# Altium footprint library SENSOR.PcbLib: 86 footprints (part 5 of 6)
Each footprint in its own frame and in the unit in brackets; x right, y up, seen from the top. Pads: shape width x height; smd on the part's side, far side on the other; paste and mask are expansions set on the pad; w line width, h text height; cw(c..) or ccw(c..) is an arc to the next point about the centre after c.
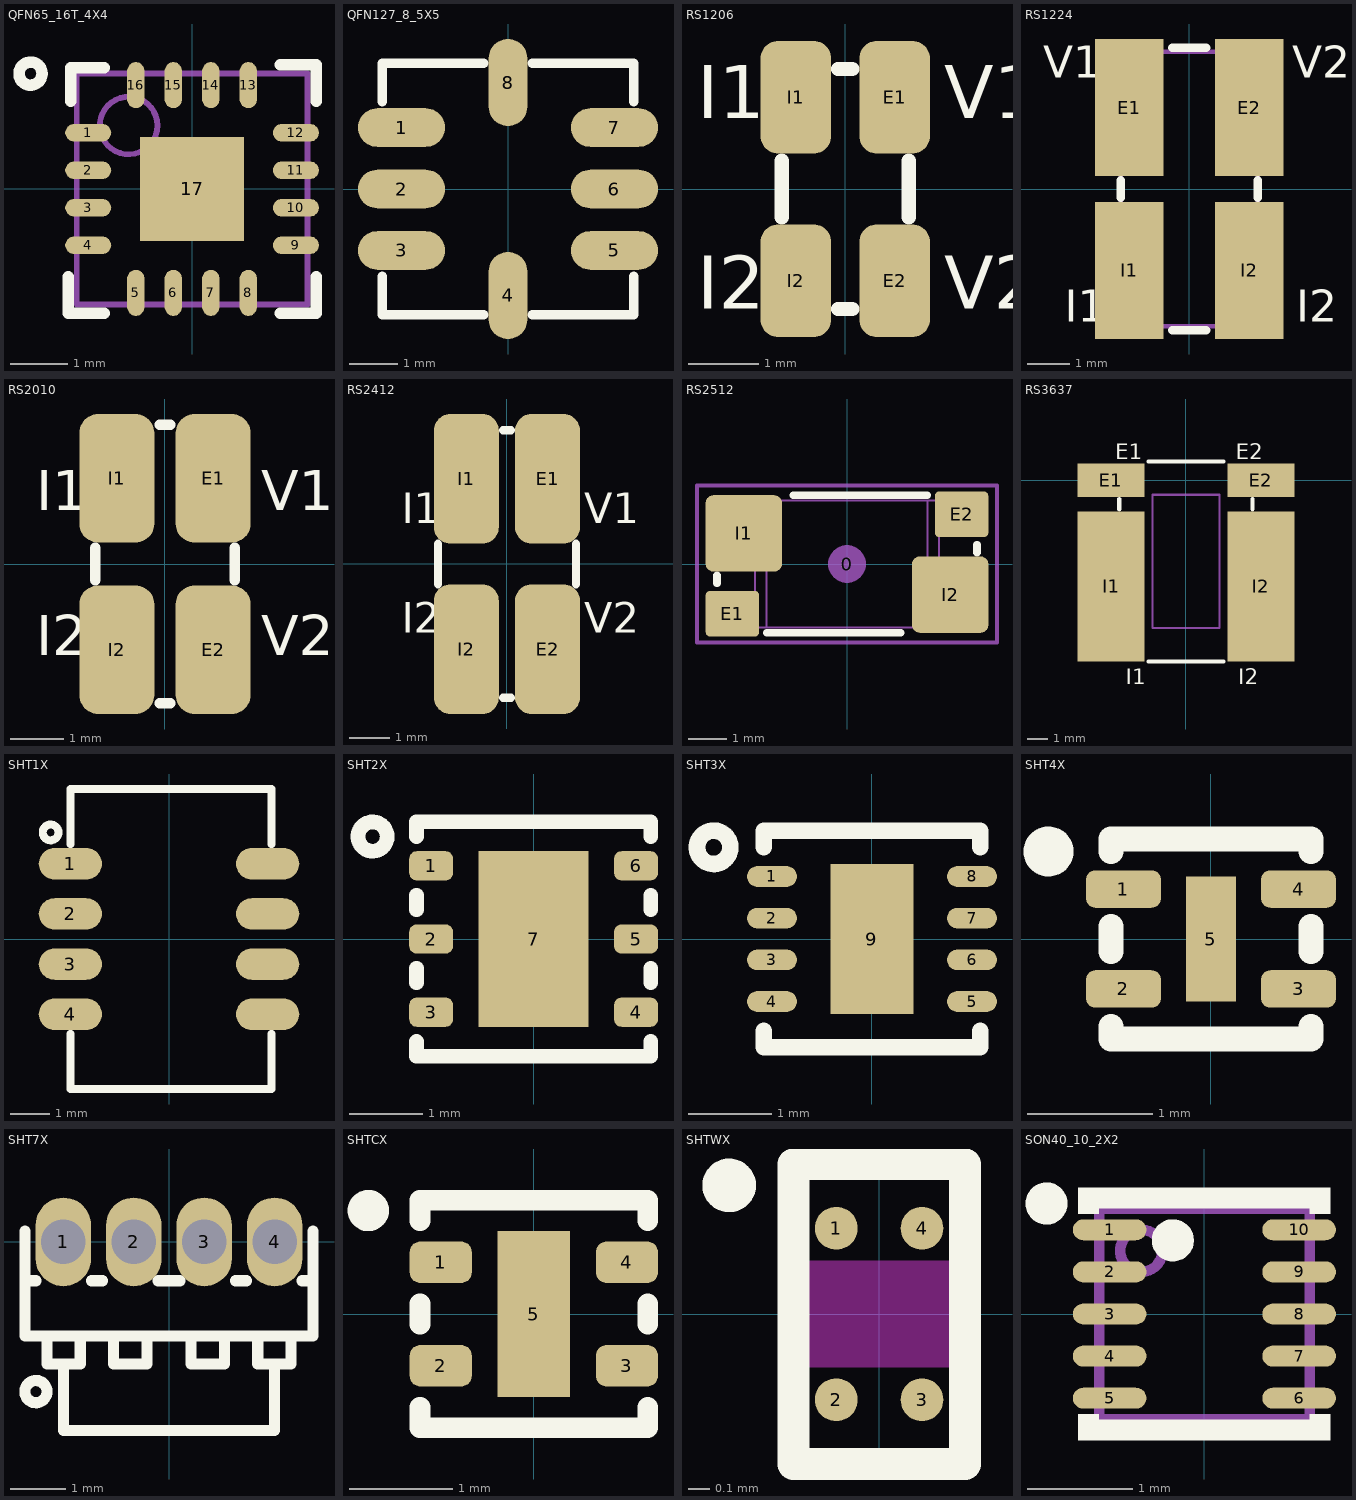
[diagram p4: the footprints below, top view; thin cyan lines are the x and y axes]

## QFN65_16T_4X4 [mm] "QFN, 16-Leads, Body 4.00x4.00mm, Pitch 0.65mm, ADX330"
height 1.5
pads (17):
  oval 0.8x0.3 smd mask+0.075: 1(-1.8,0.975) 2(-1.8,0.325) 3(-1.8,-0.325) 4(-1.8,-0.975) 9(1.8,-0.975) 10(1.8,-0.325) 11(1.8,0.325) 12(1.8,0.975)
  oval 0.3x0.8 smd mask+0.075: 5(-0.975,-1.8) 6(-0.325,-1.8) 7(0.325,-1.8) 8(0.975,-1.8) 13(0.975,1.8) 14(0.325,1.8) 15(-0.325,1.8) 16(-0.975,1.8)
  rect 1.8x1.8 smd paste-0.1: 17(0,0)
Top Overlay:
  circle w0.2: c-2.8,2 r0.2
  lines w0.2: -2.15,-1.525 -2.15,-2.15 -1.525,-2.15 ; -2.1,1.525 -2.1,2.1 -1.525,2.1 ; 1.525,-2.15 2.15,-2.15 2.15,-1.525 ; 1.525,2.15 2.15,2.15 2.15,1.525
Mechanical 13:
  circle w0.1: c-1.1,1.1 r0.5
  lines w0.1: -2,-2 -2,2 2,2 2,-2 -2,-2
3D body "QFN65_16T_4X4.step": height 1.5, standoff 0, extent -2.02,-2.02 2.02,2.02

## QFN127_8_5X5 [mm] "E-8-1, LCC 8, ADXL103, ADXL203"
pads (8):
  oval 1.8x0.8 smd paste-0.05: 1(-2.2,1.27) 2(-2.2,0) 3(-2.2,-1.27) 5(2.2,-1.27) 6(2.2,0) 7(2.2,1.27)
  oval 0.8x1.8 smd paste-0.05: 4(0,-2.2) 8(0,2.2)
Top Overlay:
  lines w0.2: -2.6,-1.8 -2.6,-2.6 -0.5,-2.6 ; -2.6,1.8 -2.6,2.6 -0.5,2.6 ; 0.5,-2.6 2.6,-2.6 2.6,-1.8 ; 0.5,2.6 2.6,2.6 2.6,1.8
3D body "User Library-LCC-8.step": height 1.55, standoff 0, extent -2.5,-2.5 2.5,2.5

## RS1206 [mm] "RESISTOR SHUNT SMD, 3.2X1.6mm, 1206, LVK12"
height 0.5
pads (4):
  rrect50% 1x1.6 smd: E1(0.7,1.3) E2(0.7,-1.3) I1(-0.7,1.3) I2(-0.7,-1.3)
Top Overlay:
  lines w0.2: -0.9,-0.4 -0.9,0.4 ; -0.1,-1.7 0.1,-1.7 ; -0.1,1.7 0.1,1.7 ; 0.9,-0.4 0.9,0.4
  text "V1" at 1.4,1 h0.75
  text "I1" at -2.1,1 h0.75
  text "V2" at 1.4,-1.7 h0.75
  text "I2" at -2.1,-1.7 h0.75
3D body "LVK12R010FER.stp": height 0.6, standoff 0.05, extent -0.8,-1.6 0.8,1.6

## RS1224 [mm] "RESISTOR SHUNT SMD, 6.4X3.2mm, 1224, LVK25R005FER"
pads (4):
  rect 1.6x3.2 smd: E1(-1.4,1.9) E2(1.4,1.9) I1(-1.4,-1.9) I2(1.4,-1.9)
Top Overlay:
  lines w0.2: -1.6,-0.2 -1.6,0.2 ; -0.4,-3.3 0.4,-3.3 ; -0.4,3.3 0.4,3.3 ; 1.6,-0.2 1.6,0.2
  text "V1" at -3.4,2.6 h0.75
  text "I1" at -2.9,-3.1 h0.75
  text "V2" at 2.4,2.6 h0.75
  text "I2" at 2.5,-3.1 h0.75
Mechanical 13:
  lines w0.1: -1.6,-3.2 1.6,-3.2 1.6,3.2 -1.6,3.2 -1.6,-3.2
3D body "User Library-LVK25-V2.step": height 0.67, standoff -0.05, extent -1.55,-3.2 1.55,3.211

## RS2010 [mm] "RESISTOR SHUNT SMD, 5X2.5mm, 2010, LVK20"
height 0.5
pads (4):
  rrect50% 1.4x2.4 smd: E1(0.9,1.6) E2(0.9,-1.6) I1(-0.9,1.6) I2(-0.9,-1.6)
Top Overlay:
  lines w0.2: -1.3,-0.3 -1.3,0.3 ; -0.1,-2.6 0.1,-2.6 ; -0.1,2.6 0.1,2.6 ; 1.3,-0.3 1.3,0.3
  text "I2" at -2.4,-1.7 h0.75
  text "V2" at 1.8,-1.7 h0.75
  text "I1" at -2.4,1 h0.75
  text "V1" at 1.8,1 h0.75
3D body "LVK20R010FER.stp": height 0.6, standoff 0.05, extent -1.245,-2.502 1.245,2.502

## RS2412 [mm] "RESISTOR SHUNT SMD, 6.4X3.2mm, 2412, LVK24"
height 0.5
pads (4):
  rrect50% 1.6x3.2 smd: E1(1,2.1) E2(1,-2.1) I1(-1,2.1) I2(-1,-2.1)
Top Overlay:
  lines w0.2: -1.7,-0.5 -1.7,0.5 ; -0.1,-3.3 0.1,-3.3 ; -0.1,3.3 0.1,3.3 ; 1.7,-0.5 1.7,0.5
  text "I2" at -2.6,-1.7 h0.75
  text "V2" at 1.9,-1.7 h0.75
  text "I1" at -2.6,1 h0.75
  text "V1" at 1.9,1 h0.75
3D body "LVK24R010FER.stp": height 0.6, standoff 0.05, extent -1.6,-3.2 1.6,3.201

## RS2512 [mm] "RESISTOR SHUNT SMD, 6.3x3.2mm, 2512"
height 0.89
pads (5):
  round 1 on Mech15: 0(0,0)
  rrect20% 1.4x1.2 smd paste-0.7: E1(-3,-1.3) E2(3,1.3)
  rrect20% 2x2 smd paste-1.1: I1(-2.7,0.8) I2(2.7,-0.8)
Top Overlay:
  lines w0.2: -3.4,-0.5 -3.4,-0.3 ; -2.1,-1.8 1.4,-1.8 ; -1.4,1.8 2.1,1.8 ; 3.4,0.3 3.4,0.5
Mechanical 13:
  circle w0.05: c0,0 r0.25
  lines w0.05: -2.106,-1.663 -2.106,1.663 ; 2.106,-1.663 2.106,1.663 ; -3.3,-1.663 -3.3,-0.813 -2.406,-0.813 -2.406,0.038 -3.3,0.038 -3.3,1.663 3.3,1.663 3.3,0.813 2.406,0.813 2.406,-0.038 3.3,-0.038 3.3,-1.663 -3.3,-1.663
Mechanical 15:
  lines w0.1: -3.925,-2.05 -3.925,2.05 3.925,2.05 3.925,-2.05 -3.925,-2.05
3D body "RESC6332X89_119T_KELVIN.STEP": height 0.88, standoff 0, extent -3.3,-1.662 3.3,1.663

## RS3637 [mm] "RESISTOR SHUNT SMD, 9.1X9.4mm, 3637"
pads (4):
  rect 3.2x1.6 smd: E1(-3.6,0) E2(3.6,0)
  rect 3.2x7.2 smd: I1(-3.6,-5.1) I2(3.6,-5.1)
Top Overlay:
  lines w0.2: -3.2,-1.4 -3.2,-0.9 ; -1.8,-8.7 1.8,-8.7 ; -1.8,0.9 1.8,0.9 ; 3.2,-1.4 3.2,-0.9
  text "E1" at -3.4,1 h0.75
  text "I1" at -2.9,-9.8 h0.75
  text "E2" at 2.4,1 h0.75
  text "I2" at 2.5,-9.8 h0.75
Mechanical 13:
  lines w0.1: -1.6,-7.1 1.6,-7.1 1.6,-0.7 -1.6,-0.7 -1.6,-7.1
3D body "User Library-WSL3637.step": height 0.64, standoff 0, extent -4.57,-8.6 4.57,0.8

## SHT1X [mm] "SENSIRION SHT1x humidity and temp sensor"
pads (8):
  oval 1.6x0.8 smd paste-0.05 mask+0.075: 1(-2.5,1.905) 2(-2.5,0.635) 3(-2.5,-0.635) 4(-2.5,-1.905) ""(2.5,-1.905) ""(2.5,-0.635) ""(2.5,0.635) ""(2.5,1.905)
Top Overlay:
  circle w0.2: c-3,2.7 r0.2
  lines w0.2: -2.5,-2.4 -2.5,-3.8 2.6,-3.8 2.6,-2.4 ; -2.5,2.4 -2.5,3.8 2.6,3.8 2.6,2.4
3D body "SHT1x.STEP": height 2.35, standoff -0.01, extent -2.43,-3.735 2.5,3.735

## SHT2X [mm] "SENSIRION SHT2X humidity and temp sensor 3X3x1.1mm"
height 1.1
pads (7):
  rrect50% 0.6x0.4 smd paste-0.05 mask+0.075: 1(-1.4,1) 2(-1.4,0) 3(-1.4,-1) 4(1.4,-1) 5(1.4,0) 6(1.4,1)
  rect 1.5x2.4 smd paste-0.05 mask+0.075: 7(0,0)
Top Overlay:
  circle w0.2: c-2.2,1.4 r0.2
  lines w0.2: -1.6,-1.4 -1.6,-1.6 1.6,-1.6 1.6,-1.4 ; -1.6,-0.6 -1.6,-0.4 ; -1.6,0.4 -1.6,0.6 ; -1.6,1.4 -1.6,1.6 1.6,1.6 1.6,1.4 ; 1.6,-0.6 1.6,-0.4 ; 1.6,0.4 1.6,0.6
3D body "SHT21.step": height 1.1, standoff -0.02, extent -1.51,-1.5 1.51,1.5

## SHT3X [mm] "SENSIRION SHT3x humidity and temp sensor 2.5x2.5x1mm"
height 1
pads (9):
  oval 0.6x0.25 smd paste-0.025 mask+0.075: 1(-1.2,0.75) 2(-1.2,0.25) 3(-1.2,-0.25) 4(-1.2,-0.75) 5(1.2,-0.75) 6(1.2,-0.25) 7(1.2,0.25) 8(1.2,0.75)
  rect 1x1.8 smd: 9(0,0)
Top Overlay:
  circle w0.2: c-1.9,1.1 r0.2
  lines w0.2: -1.3,-1.1 -1.3,-1.3 1.3,-1.3 1.3,-1.1 ; -1.3,1.1 -1.3,1.3 1.3,1.3 1.3,1.1
3D body "sht3x.step": height 0.9, standoff 0, extent -1.25,-1.3 1.25,1.2

## SHT4X [mm] "SENSIRION SHT4X humidity and temp sensor 1.5X1.5x0.54mm"
height 0.6
pads (5):
  rrect50% 0.6x0.3 smd paste-0.025 mask+0.075: 1(-0.7,0.4) 2(-0.7,-0.4) 3(0.7,-0.4) 4(0.7,0.4)
  rect 0.4x1 smd mask+0.075: 5(0,0)
Top Overlay:
  circle w0.2: c-1.3,0.7 r0.1
  lines w0.2: -0.8,-0.7 -0.8,-0.8 0.8,-0.8 0.8,-0.7 ; -0.8,-0.1 -0.8,0.1 ; -0.8,0.7 -0.8,0.8 0.8,0.8 0.8,0.7 ; 0.8,-0.1 0.8,0.1
3D body "SHT4x.step": height 0.55, standoff 0, extent -0.751,-0.75 0.751,0.75

## SHT7X [mm] "SENSIRION SHT7x humidity and temp sensor"
pads (4):
  oval 1x1.6 hole 0.8 mask+0.075: 1(-1.905,0) 2(-0.635,0)
  oval 1x1.6 hole 0.8 paste-2539.97 mask+0.075: 3(0.635,0) 4(1.905,0)
Top Overlay:
  circle w0.2: c-2.4,-2.7 r0.2
  lines w0.2: -2.6,-0.7 -2.4,-0.7 ; -2.6,0.2 -2.6,-1.7 2.6,-1.7 2.6,0.2 ; -2.2,-1.7 -2.2,-2.2 -1.6,-2.2 -1.6,-1.7 ; -1.9,-2.2 -1.9,-3.4 1.9,-3.4 1.9,-2.2 ; -1.4,-0.7 -1.2,-0.7 ; -1,-1.7 -1,-2.2 -0.4,-2.2 -0.4,-1.7 ; -0.2,-0.7 0.2,-0.7 ; 0.4,-1.7 0.4,-2.2 1,-2.2 1,-1.7 ; 1.2,-0.7 1.4,-0.7 ; 1.6,-1.7 1.6,-2.2 2.2,-2.2 2.2,-1.7 ; 2.4,-0.7 2.6,-0.7
3D body "SHT7x.STEP": height 13.7, standoff -6.1, extent -2.54,-3.3 2.54,0.1

## SHTCX [mm] "SENSIRION SHTCx humidity and temp sensor 2X2x0.75mm"
height 0.75
pads (5):
  rrect50% 0.6x0.4 smd paste-0.025 mask+0.075: 1(-0.9,0.5) 2(-0.9,-0.5) 3(0.9,-0.5) 4(0.9,0.5)
  rect 0.7x1.6 smd mask+0.075: 5(0,0)
Top Overlay:
  circle w0.2: c-1.6,1 r0.1
  lines w0.2: -1.1,-0.9 -1.1,-1.1 1.1,-1.1 1.1,-0.9 ; -1.1,-0.1 -1.1,0.1 ; -1.1,0.9 -1.1,1.1 1.1,1.1 1.1,0.9 ; 1.1,-0.1 1.1,0.1
3D body "shtc1.step": height 0.76, standoff -0.01, extent -1.01,-1 1.01,1

## SHTWX [mm] "SENSIRION SHTW2 humidity and temp sensor 0.7X1.3x0.5mm"
height 0.5
pads (8):
  round 0.2 smd paste-0.15 mask+0.05: 1(-0.2,0.4) 2(-0.2,-0.4) 3(0.2,-0.4) 4(0.2,0.4)
  rrect30% 0.25x0.25 on Top Paste: ""(-0.2,-0.4) ""(-0.2,0.4) ""(0.2,-0.4) ""(0.2,0.4)
Top Layer keep-out:
  rectangle: -0.45,-0.25 0.45,0.25
Top Overlay:
  circle w0.15: c-0.7,0.6 r0.05
  lines w0.15: -0.4,-0.7 0.4,-0.7 0.4,0.7 -0.4,0.7 -0.4,-0.7
3D body "115093-01_Publikationsmodell SHTW2.step": height 0.54, standoff -0.01, extent -0.37,-0.655 0.37,0.655

## SON40_10_2X2 [mm] "DFN-10 pitch:2mm 2X2X0.85mm"
height 0.9
pads (10):
  oval 0.7x0.2 smd mask+0.05: 1(-0.9,0.8) 2(-0.9,0.4) 3(-0.9,0) 4(-0.9,-0.4) 5(-0.9,-0.8) 6(0.9,-0.8) 7(0.9,-0.4) 8(0.9,0) 9(0.9,0.4) 10(0.9,0.8)
Top Overlay:
  circle w0.2: c-1.5,1.05 r0.1
  circle w0.2: c-0.3,0.7 r0.1
  region: 1.2,-0.95 1,-0.95 1,-1.2 1.2,-1.2
  rectangle: -1.2,-1.2 -1,-0.95
  rectangle: -1.2,0.95 -1,1.2
  region: 1.2,1.2 1,1.2 1,0.95 1.2,0.95
  lines w0.2: -1.1,-1.1 1.1,-1.1 ; -1.1,1.1 1.1,1.1
Mechanical 13:
  circle w0.1: c-0.6,0.6 r0.2
  lines w0.1: -1,-1 -1,1 1,1 1,-1 -1,-1
3D body "User Library-DFN-10 (2x2) 0_4 pitch.step": height 0.85, standoff -0.03, extent -1.01,-1 1.01,1